# Altium footprint library BROADCOM SOT-343.PCBLIB: 1 footprints
Each footprint in its own frame and in the unit in brackets; x right, y up, seen from the top. Pads: shape width x height; smd on the part's side, far side on the other; paste and mask are expansions set on the pad; w line width, h text height; cw(c..) or ccw(c..) is an arc to the next point about the centre after c.
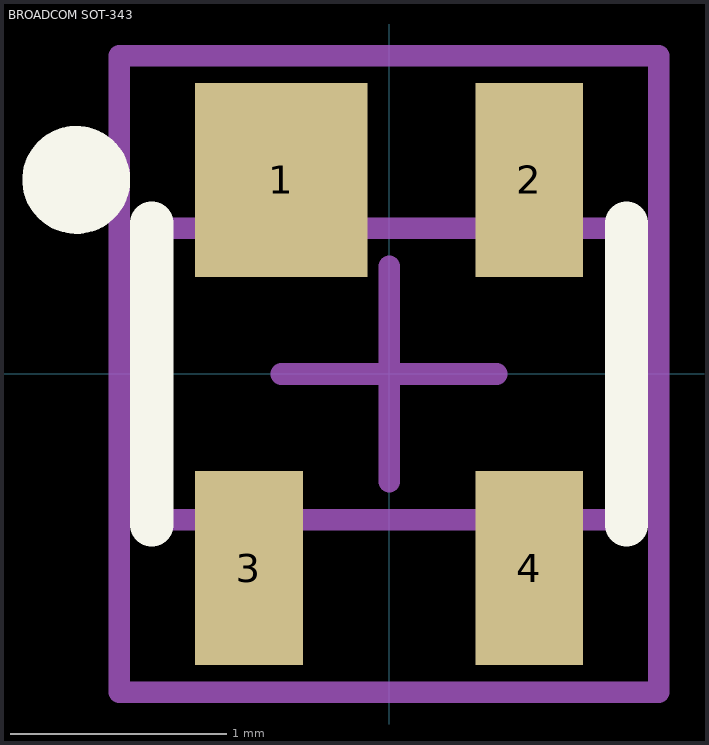
[diagram p0: the footprint, top view; thin cyan lines are the x and y axes]

## BROADCOM SOT-343 [mm] "SOT343, 4-Leads, Body 2.3x2.4mm (max), Pitch 1.30mm, IPC High Density"
height 1.2
pads (4):
  rect 0.8x0.9 smd: 1(-0.5,0.9)
  rect 0.5x0.9 smd: 2(0.65,0.9) 3(-0.65,-0.9) 4(0.65,-0.9)
Top Overlay:
  circle w0.25: c-1.45,0.9 r0.125
  lines w0.2: -1.1,-0.7 -1.1,0.7 ; 1.1,-0.7 1.1,0.7
Mechanical 13:
  lines w0.1: -1.125,-0.675 1.125,-0.675 1.125,0.675 -1.125,0.675 -1.125,-0.675
Mechanical 15:
  lines w0.1: -0.5,0 0.5,0 ; 0,-0.5 0,0.5 ; -1.25,-1.475 1.25,-1.475 1.25,1.475 -1.25,1.475 -1.25,-1.475
3D body "SOT343-4.STEP": height 1, standoff 0, extent -1.1,-1.1 1.1,1.1